# EAGLE library part 10104111-0001LF (library microUSBAB)
Conn USB Type A/B RCP 5 POS 0.65mm Solder RA SMD 5 Terminal 1 Port T/R Buy Part <https://snapeda.com/parts/10104111-0001LF/Amphenol%20ICC/view-part/?ref=eda>
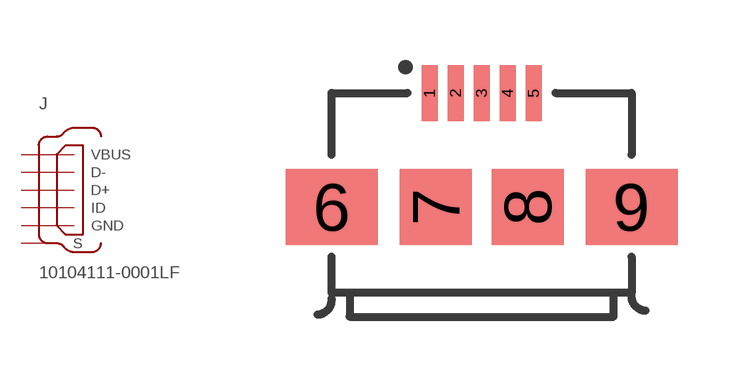
[diagram p0: symbol with the pads of FRAMATOME_10104111-0001LF; footprint FRAMATOME_10104111-0001LF]

Designator prefix J

## 10104111-0001LF (Arrow_Electronics-Purchase-URL: https://snapeda.com/shop?store=Arrow+Electronics&id=2753161; Availability: Good; Description: USB - micro AB USB 2.0 Receptacle Connector 5 Position Surface Mount, Right Angle; DigiKey-Purchase-URL: https://snapeda.com/shop?store=DigiKey&id=2753161; MF: Amphenol ICC; MP: 10104111-0001LF; Mouser-Purchase-URL: https://snapeda.com/shop?store=Mouser&id=2753161; Package: None; Price: None)  [FRAMATOME_10104111-0001LF]
1  VBUS  pwr
2  D-  pas
3  D+  pas
4  ID  pas
5  GND  pwr
6  S  pwr
7  S  pwr
8  S  pwr
9  S  pwr

## Footprint FRAMATOME_10104111-0001LF (pad centres in mm)
smd 0.4 x 1.4: 1 -1.3,2.85; 2 -0.65,2.85; 3 0,2.85; 4 0.65,2.85; 5 1.3,2.85
smd 2.3 x 1.9: 6 -3.75,0; 9 3.75,0
smd 1.8 x 1.9: 7 -1.15,0; 8 1.15,0